# EAGLE library part ATTINY13 (library atmel)
8-bit AVR tiny Microcontroller Status obsolete/discontinued aktiv ATtiny13(V) ATtiny13A General purpose working registers 32 SRAM 64 B Program flash memory 1 kB EEPROM 64 B 8-bit Timer/Counter 1 USART 1 ADC channels 4 ADC resolution 10bit AC 1 Watchdog 1 General purpose I/O 6 External interrupts 6 Operating voltage 1.8 ... 5.5 V for ATtiny13V 1.8 ... 5.5 V 2.7 ... 5.5 V for ATtiny13 Speed grade 0 ... 4 MHz @ 1.8 ... 5.5 V for ATtiny13V 0 ... 4 MHz @ 1.8 ... 5.5 V 0 ... 10 MHz @ 2.7 ... 5.5 V for ATtiny13V 0 ... 10 MHz @ 2.7 ... 5.5 V 0 ... 10 MHz @ 2.7 ... 5.5 V for ATtiny13 0 ... 20 MHz @ 4.5 ... 5.5 V 0 ... 20 MHz @ 4.5 ... 5.5 V for ATtiny13 Clock options calibrated internal 4.8/9.6 MHz RC oscillator internal 128 kHz oscillator external clock input
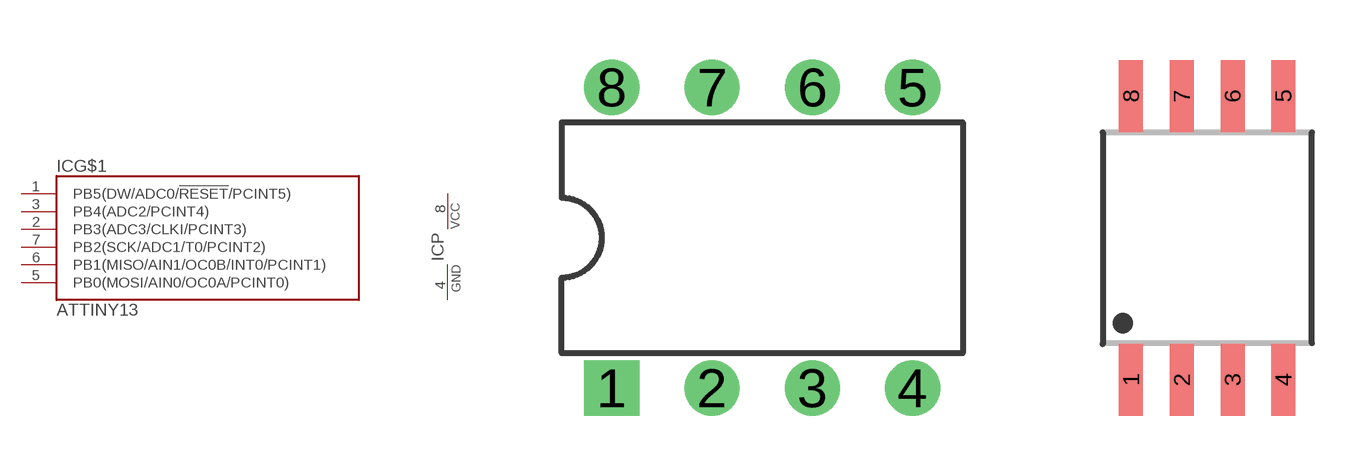
[diagram p70: symbol with the pads of DIL08; footprints DIL08, 8S2]

Designator prefix IC; gates G$1=TINY13 P=PWR

## ATTINY13-20PU, ATTINY13A-PU, ATTINY13V-10PU  [DIL08]
1  G$1:PB5(DW/ADC0/!RESET!/PCINT5)
2  G$1:PB3(ADC3/CLKI/PCINT3)
3  G$1:PB4(ADC2/PCINT4)
4  P:GND  pwr
5  G$1:PB0(MOSI/AIN0/OC0A/PCINT0)
6  G$1:PB1(MISO/AIN1/OC0B/INT0/PCINT1)
7  G$1:PB2(SCK/ADC1/T0/PCINT2)
8  P:VCC  pwr

## ATTINY13-20SU, ATTINY13A-SU, ATTINY13V-10SU  [8S2]
Pads as for DIL08

## ATTINY13A-SH  [8S2]
Pads as for DIL08

## ATTINY13A-SN  [8S2]
Pads as for DIL08

## ATTINY13A-SF  [8S2]
Pads as for DIL08

## ATTINY13-20SSU, ATTINY13A-SSU, ATTINY13V-10SSU  [SO8]
Pads as for DIL08

## ATTINY13A-SSH  [SO8]
Pads as for DIL08

## ATTINY13A-SS7  [SO8]
Pads as for DIL08

## ATTINY13-20MU, ATTINY13A-MU, ATTINY13V-10MU  [QFN20_4X4_0.50]
1  G$1:PB5(DW/ADC0/!RESET!/PCINT5)
2  G$1:PB3(ADC3/CLKI/PCINT3)
5  G$1:PB4(ADC2/PCINT4)
8  P:GND  pwr
11  G$1:PB0(MOSI/AIN0/OC0A/PCINT0)
12  G$1:PB1(MISO/AIN1/OC0B/INT0/PCINT1)
14  G$1:PB2(SCK/ADC1/T0/PCINT2)
15  P:VCC  pwr
EXP  P:GND  pwr

## ATTINY13-20MMU, ATTINY13A-MMU, ATTINY13V-10MMU  [DFN10_3X3]
1  G$1:PB5(DW/ADC0/!RESET!/PCINT5)
2  G$1:PB3(ADC3/CLKI/PCINT3)
4  G$1:PB4(ADC2/PCINT4)
5  P:GND  pwr
6  G$1:PB0(MOSI/AIN0/OC0A/PCINT0)
7  G$1:PB1(MISO/AIN1/OC0B/INT0/PCINT1)
9  G$1:PB2(SCK/ADC1/T0/PCINT2)
10  P:VCC  pwr
EXP  P:GND  pwr

## ATTINY13A-MMF  [DFN10_3X3]
Pads as for DFN10_3X3

## Footprint DIL08 (pad centres in mm)
DIL package, pin row distance 300mil
drill 0.8 pad 1.4 square: 1 -3.81,-3.81
drill 0.8 pad 1.4: 2 -1.27,-3.81; 3 1.27,-3.81; 4 3.81,-3.81; 5 3.81,3.81; 6 1.27,3.81; 7 -1.27,3.81; 8 -3.81,3.81

## Footprint 8S2 (pad centres in mm)
8 leads Plastic Small Outline Package, 208mil body width, 50mil lead pitch JEDEC: Atmel: 8S2 Texas Instruments: PS (R-PDSO-G8)
smd 0.6 x 1.8: 1 -1.905,-3.55; 2 -0.635,-3.55; 3 0.635,-3.55; 4 1.905,-3.55; 5 1.905,3.55; 6 0.635,3.55; 7 -0.635,3.55; 8 -1.905,3.55

## Footprint SO8 (pad centres in mm)
Small Outline IC, 150mil body width, 50mil lead pitch package/pad dimensions according to IPC-SM-782, RLP No. 300A JEDEC: MS-012 AA IPC: SO8 other notations: SO-8, SO08, SO-08, SOIC8, SOIC-8, SOIC08, SOIC-08
smd 0.6 x 2.2: 1 -1.905,-2.6; 2 -0.635,-2.6; 3 0.635,-2.6; 4 1.905,-2.6; 5 1.905,2.6; 6 0.635,2.6; 7 -0.635,2.6; 8 -1.905,2.6

## Footprint QFN20_4X4_0.50 (pad centres in mm)
20-Lead Plastic QFN, 4mm x 4mm body, 0.5mm lead pitch, exposed pad 0.45 mm lead length JEDEC: MO-220 ATMEL Code: 20M1, ZFV other notations: MFL20
smd 0.9 x 0.3: 1 -2,1; 2 -2,0.5; 3 -2,0; 4 -2,-0.5; 5 -2,-1; 11 2,-1; 12 2,-0.5; 13 2,0; 14 2,0.5; 15 2,1
smd 0.3 x 0.9: 6 -1,-2; 7 -0.5,-2; 8 0,-2; 9 0.5,-2; 10 1,-2; 16 1,2; 17 0.5,2; 18 0,2; 19 -0.5,2; 20 -1,2
smd 2.4 x 2.4: EXP 0,0

## Footprint DFN10_3X3 (pad centres in mm)
10-Lead Plastic DFN 3mm x 3mm body, 0.5mm lead pitch, exposed pad ATMEL Code: 10M1 other notations: MLF10
smd 0.3 x 0.85: 1 -1,-1.45; 2 -0.5,-1.45; 3 0,-1.45; 4 0.5,-1.45; 5 1,-1.45; 6 1,1.45; 7 0.5,1.45; 8 0,1.45; 9 -0.5,1.45; 10 -1,1.45
smd 2.7 x 1.6: EXP 0,0